# EAGLE library part 503480-2000 (library Railstars)
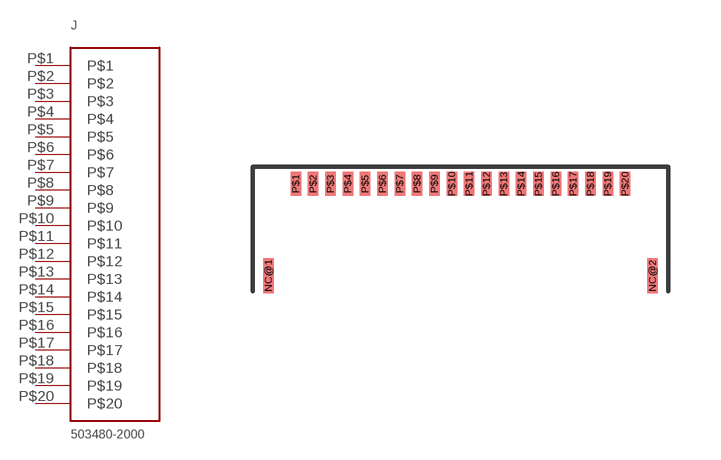
[diagram p9: symbol with the pads of 503480-2000; footprint 503480-2000]

Designator prefix J

## 503480-2000  [503480-2000]
P$1  P$1
P$2  P$2
P$3  P$3
P$4  P$4
P$5  P$5
P$6  P$6
P$7  P$7
P$8  P$8
P$9  P$9
P$10  P$10
P$11  P$11
P$12  P$12
P$13  P$13
P$14  P$14
P$15  P$15
P$16  P$16
P$17  P$17
P$18  P$18
P$19  P$19
P$20  P$20

## Footprint 503480-2000 (pad centres in mm)
smd 0.3 x 1: NC@1 -5.54,-2.65; NC@2 5.54,-2.65
smd 0.3 x 0.7: P$1 -4.75,0; P$2 -4.25,0; P$3 -3.75,0; P$4 -3.25,0; P$5 -2.75,0; P$6 -2.25,0; P$7 -1.75,0; P$8 -1.25,0; P$9 -0.75,0; P$10 -0.25,0; P$11 0.25,0; P$12 0.75,0; P$13 1.25,0; P$14 1.75,0; P$15 2.25,0; P$16 2.75,0; P$17 3.25,0; P$18 3.75,0; P$19 4.25,0; P$20 4.75,0